# Altium schematic symbol library Resistor_cement(2cm).SchLib: 1 symbol
Pins are listed as number, name and electrical type; pins without a type are passive.

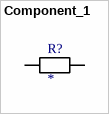
[diagram p0: symbol Component_1]

## Component_1
designator R?
2cm resistor
footprint Resistor cement 2cm
pins: 1, 2